# EAGLE library part TSW-108-05-G-S (library APU_Motherboard_Library)
Check availability <https://pricing.snapeda.com/parts/TSW-108-05-G-S/Samtec/view-part?ref=eda>
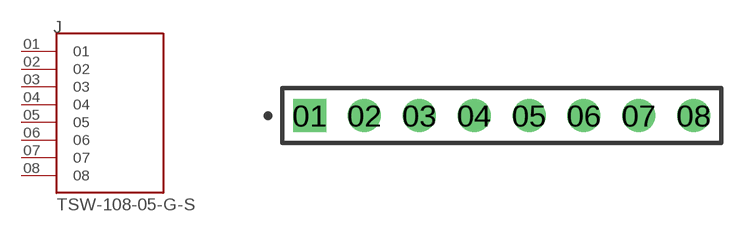
[diagram p8: symbol with the pads of SAMTEC_TSW-108-05-G-S; footprint SAMTEC_TSW-108-05-G-S]

Designator prefix J

## TSW-108-05-G-S (AVAILABILITY: In Stock; DESCRIPTION: TSW - Samtec 2.54mm Pin Header 8.51mm Overall Pin Length (05) - Fast Stock; MF: Samtec; MP: TSW-108-05-G-S; PACKAGE: None; PRICE: None; PURCHASE-URL: https://pricing.snapeda.com/search/part/TSW-108-05-G-S/?ref=eda)  [SAMTEC_TSW-108-05-G-S]
01  01  pas
02  02  pas
03  03  pas
04  04  pas
05  05  pas
06  06  pas
07  07  pas
08  08  pas

## Footprint SAMTEC_TSW-108-05-G-S (pad centres in mm)
drill 1.02 pad 1.37 square: 01 0,0
drill 1.02 pad 1.37: 02 2.54,0; 03 5.08,0; 04 7.62,0; 05 10.16,0; 06 12.7,0; 07 15.24,0; 08 17.78,0